# Altium schematic symbol library SCH - MCU - SI LABS - SI LABS EFR32MG1P232F256GJ43 43-PIN CSP 3X3.SchLib: 1 symbol
Pins are listed as number, name and electrical type; pins without a type are passive.

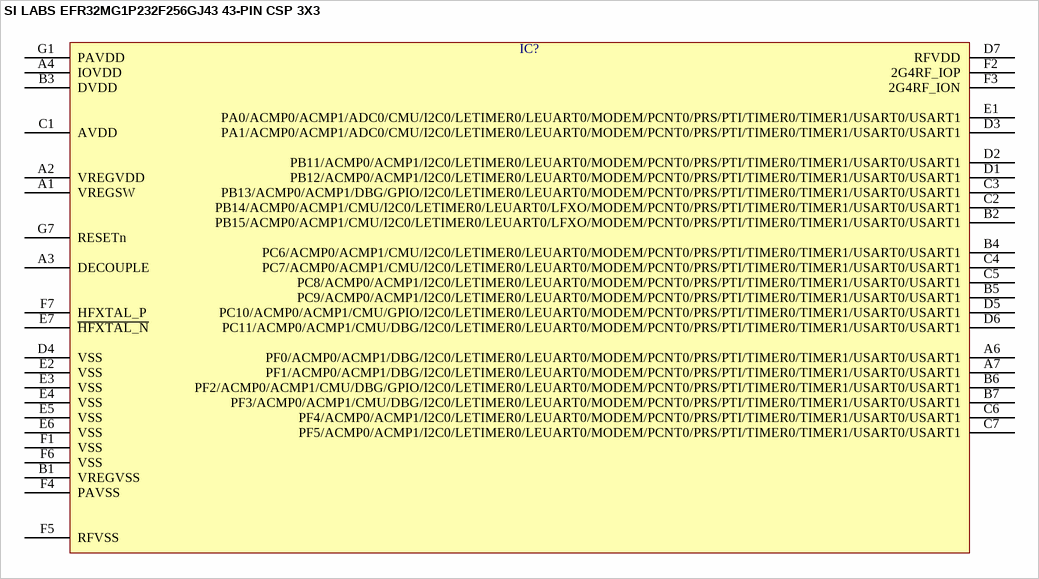
[diagram p0: symbol SI LABS EFR32MG1P232F256GJ43 43-PIN CSP 3X3]

## SI LABS EFR32MG1P232F256GJ43 43-PIN CSP 3X3
designator IC?  (value not drawn)
pins: A1 VREGSW, A2 VREGVDD, A3 DECOUPLE, A4 IOVDD, A6 PF0/ACMP0/ACMP1/DBG/I2C0/LETIMER0/LEUART0/MODEM/PCNT0/PRS/PTI/TIMER0/TIMER1/USART0/USART1, A7 PF1/ACMP0/ACMP1/DBG/I2C0/LETIMER0/LEUART0/MODEM/PCNT0/PRS/PTI/TIMER0/TIMER1/USART0/USART1, B1 VREGVSS, B2 PB15/ACMP0/ACMP1/CMU/I2C0/LETIMER0/LEUART0/LFXO/MODEM/PCNT0/PRS/PTI/TIMER0/TIMER1/USART0/USART1, B3 DVDD, B4 PC6/ACMP0/ACMP1/CMU/I2C0/LETIMER0/LEUART0/MODEM/PCNT0/PRS/PTI/TIMER0/TIMER1/USART0/USART1, B5 PC9/ACMP0/ACMP1/I2C0/LETIMER0/LEUART0/MODEM/PCNT0/PRS/PTI/TIMER0/TIMER1/USART0/USART1, B6 PF2/ACMP0/ACMP1/CMU/DBG/GPIO/I2C0/LETIMER0/LEUART0/MODEM/PCNT0/PRS/PTI/TIMER0/TIMER1/USART0/USART1, B7 PF3/ACMP0/ACMP1/CMU/DBG/I2C0/LETIMER0/LEUART0/MODEM/PCNT0/PRS/PTI/TIMER0/TIMER1/USART0/USART1, C1 AVDD, C2 PB14/ACMP0/ACMP1/CMU/I2C0/LETIMER0/LEUART0/LFXO/MODEM/PCNT0/PRS/PTI/TIMER0/TIMER1/USART0/USART1, C3 PB13/ACMP0/ACMP1/DBG/GPIO/I2C0/LETIMER0/LEUART0/MODEM/PCNT0/PRS/PTI/TIMER0/TIMER1/USART0/USART1, C4 PC7/ACMP0/ACMP1/CMU/I2C0/LETIMER0/LEUART0/MODEM/PCNT0/PRS/PTI/TIMER0/TIMER1/USART0/USART1, C5 PC8/ACMP0/ACMP1/I2C0/LETIMER0/LEUART0/MODEM/PCNT0/PRS/PTI/TIMER0/TIMER1/USART0/USART1, C6 PF4/ACMP0/ACMP1/I2C0/LETIMER0/LEUART0/MODEM/PCNT0/PRS/PTI/TIMER0/TIMER1/USART0/USART1, C7 PF5/ACMP0/ACMP1/I2C0/LETIMER0/LEUART0/MODEM/PCNT0/PRS/PTI/TIMER0/TIMER1/USART0/USART1, D1 PB12/ACMP0/ACMP1/I2C0/LETIMER0/LEUART0/MODEM/PCNT0/PRS/PTI/TIMER0/TIMER1/USART0/USART1, D2 PB11/ACMP0/ACMP1/I2C0/LETIMER0/LEUART0/MODEM/PCNT0/PRS/PTI/TIMER0/TIMER1/USART0/USART1, D3 PA1/ACMP0/ACMP1/ADC0/CMU/I2C0/LETIMER0/LEUART0/MODEM/PCNT0/PRS/PTI/TIMER0/TIMER1/USART0/USART1, D4 VSS, D5 PC10/ACMP0/ACMP1/CMU/GPIO/I2C0/LETIMER0/LEUART0/MODEM/PCNT0/PRS/PTI/TIMER0/TIMER1/USART0/USART1, D6 PC11/ACMP0/ACMP1/CMU/DBG/I2C0/LETIMER0/LEUART0/MODEM/PCNT0/PRS/PTI/TIMER0/TIMER1/USART0/USART1, D7 RFVDD, E1 PA0/ACMP0/ACMP1/ADC0/CMU/I2C0/LETIMER0/LEUART0/MODEM/PCNT0/PRS/PTI/TIMER0/TIMER1/USART0/USART1, E2 VSS, E3 VSS, E4 VSS, E5 VSS, E6 VSS, E7 ~{HFXTAL_N}, F1 VSS, F2 2G4RF_IOP, F3 2G4RF_ION, F4 PAVSS, F5 RFVSS, F6 VSS, F7 HFXTAL_P, G1 PAVDD, G7 RESETn